# Altium footprint library drive.PcbLib: 35 footprints (part 3 of 3)
Each footprint in its own frame and in the unit in brackets; x right, y up, seen from the top. Pads: shape width x height; smd on the part's side, far side on the other; paste and mask are expansions set on the pad; w line width, h text height; cw(c..) or ccw(c..) is an arc to the next point about the centre after c.
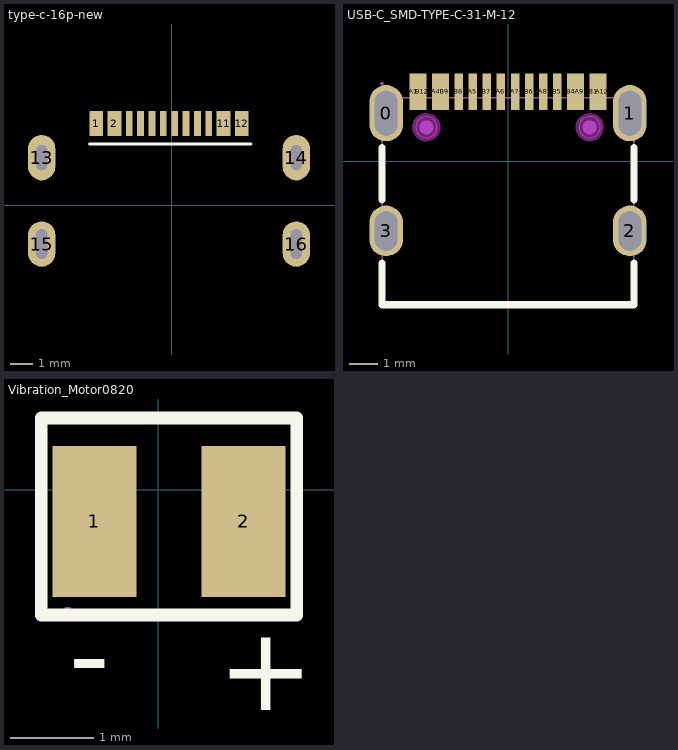
[diagram p2: the footprints below, top view; thin cyan lines are the x and y axes]

## type-c-16p-new [mm]
pads (16):
  rect 0.6x1.1 smd paste-100 mask+0.05: 1(-3.327,3.59) 2(-2.527,3.59) 11(2.273,3.59) 12(3.073,3.59)
  rect 0.3x1.1 smd paste-100 mask+0.05: 3(-1.877,3.59) 4(-1.377,3.59) 5(-0.877,3.59) 6(-0.377,3.59) 7(0.123,3.59) 8(0.623,3.59) 9(1.123,3.59) 10(1.623,3.59)
  oval 1.2x2 hole 0.5 slot 1.1 at 90 deg: 13(-5.727,2.097) 14(5.473,2.097)
  oval 1.2x2 hole 0.5 slot 1.3 at 90 deg: 15(-5.727,-1.703) 16(5.473,-1.703)
Top Overlay:
  lines w0.15: -3.627,2.697 3.273,2.697 3.473,2.697
Top Paste:
  region: -1.027,4.141 -0.727,4.141 -0.727,3.041 -1.027,3.041
  region: 0.473,4.141 0.773,4.141 0.773,3.041 0.473,3.041
  region: -2.027,4.141 -1.727,4.141 -1.727,3.041 -2.027,3.041
  region: -2.827,4.141 -2.227,4.141 -2.227,3.041 -2.827,3.041
  region: -0.527,4.141 -0.227,4.141 -0.227,3.041 -0.527,3.041
  region: -1.527,4.141 -1.227,4.141 -1.227,3.041 -1.527,3.041
  region: -3.627,4.141 -3.027,4.141 -3.027,3.041 -3.627,3.041
  region: -0.027,4.141 0.273,4.141 0.273,3.041 -0.027,3.041
  region: 1.973,4.141 2.573,4.141 2.573,3.041 1.973,3.041
  region: 2.773,4.14 3.373,4.14 3.373,3.04 2.773,3.04
  region: 0.973,4.141 1.273,4.141 1.273,3.041 0.973,3.041
  region: 1.473,4.141 1.773,4.141 1.773,3.041 1.473,3.041
3D body "TYPEC_6P.STEP": height 1.59, standoff -1.57, extent -5.827,-3.503 5.573,3.047

## USB-C_SMD-TYPE-C-31-M-12 [mm]
pads (20):
  oval 1.2x2 hole 0.8 slot 1.6 at 90 deg: 0(-4.325,1.706) 1(4.325,1.706)
  oval 1.2x1.8 hole 0.8 slot 1.4 at 90 deg: 2(4.325,-2.474) 3(-4.325,-2.474)
  rect 0.3x1.3 smd paste-100 mask+0.051: A1(-3.35,2.474) A4(-2.55,2.474) A5(-1.25,2.474) A6(-0.25,2.474) A7(0.25,2.474) A8(1.25,2.474) A9(2.55,2.474) A12(3.35,2.474) B1(3.05,2.474) B4(2.25,2.474) B5(1.75,2.474) B6(0.75,2.474) B7(-0.75,2.474) B8(-1.75,2.474) B9(-2.25,2.474) B12(-3.05,2.474)
Top Overlay:
  lines w0.254: -4.469,-3.613 -4.469,-5.094 4.471,-5.094 4.471,-3.612 ; -4.469,-1.376 -4.469,0.487 ; 4.471,-1.376 4.471,0.488
Top Paste:
  drawing of 16 lines, arcs and shapes, not listed
Keep-Out Layer:
  board cut-out: -2.525,1.206 -2.525,1.28 -2.582,1.418 -2.688,1.524 -2.825,1.581 -2.975,1.581 -3.112,1.524 -3.218,1.418 -3.275,1.28 -3.275,1.206 -3.275,1.131 -3.218,0.993 -3.112,0.888 -2.975,0.831 -2.825,0.831 -2.688,0.888 -2.582,0.993 -2.525,1.131
  board cut-out: 3.275,1.206 3.275,1.28 3.218,1.418 3.112,1.524 2.974,1.581 2.825,1.581 2.687,1.524 2.582,1.418 2.525,1.28 2.525,1.206 2.525,1.131 2.582,0.993 2.687,0.888 2.825,0.831 2.974,0.831 3.112,0.888 3.218,0.993 3.275,1.131
Keep-Out Layer:
  circle w0.025: c-2.9,1.206 r0.375
  circle w0.254: c-2.9,1.206 r0.375
  circle w0.025: c2.9,1.206 r0.375
  circle w0.254: c2.9,1.206 r0.375
Mechanical 1:
  circle w0.025: c-2.9,1.206 r0.375
  circle w0.025: c2.9,1.206 r0.375
Mechanical 6:
  circle w0.25: c2.9,1.206 r0.125
  circle w0.25: c-2.9,1.206 r0.125
Mechanical 15:
  region: -4.415,2.756 -4.416,2.78 -4.451,2.813 -4.499,2.813 -4.534,2.78 -4.535,2.756 -4.534,2.732 -4.499,2.699 -4.451,2.699 -4.416,2.732
  region: -4.475,-2.074 -4.175,-2.074 -4.175,-2.874 -4.475,-2.874
  region: 4.175,-2.074 4.475,-2.074 4.475,-2.874 4.175,-2.874
  region: 4.175,2.256 4.475,2.256 4.475,1.156 4.175,1.156
  region: -4.475,2.256 -4.175,2.256 -4.175,1.156 -4.475,1.156
  region: 3.21,2.756 3.41,2.756 3.41,2.056 3.21,2.056
  region: 3.01,2.756 3.21,2.756 3.21,2.056 3.01,2.056
  region: 1.65,2.756 1.85,2.756 1.85,2.056 1.65,2.056
  region: 1.15,2.756 1.35,2.756 1.35,2.056 1.15,2.056
  region: 0.65,2.756 0.85,2.756 0.85,2.056 0.65,2.056
  region: 0.15,2.756 0.35,2.756 0.35,2.056 0.15,2.056
  region: -0.35,2.756 -0.15,2.756 -0.15,2.056 -0.35,2.056
  region: -0.85,2.756 -0.65,2.756 -0.65,2.056 -0.85,2.056
  region: -1.35,2.756 -1.15,2.756 -1.15,2.056 -1.35,2.056
  region: -1.85,2.756 -1.65,2.756 -1.65,2.056 -1.85,2.056
  region: 2.41,2.756 2.61,2.756 2.61,2.056 2.41,2.056
  region: 2.21,2.756 2.41,2.756 2.41,2.056 2.21,2.056
  region: -2.41,2.756 -2.21,2.756 -2.21,2.056 -2.41,2.056
  region: -2.61,2.756 -2.41,2.756 -2.41,2.056 -2.61,2.056
  region: -3.21,2.756 -3.01,2.756 -3.01,2.056 -3.21,2.056
  region: -3.41,2.756 -3.21,2.756 -3.21,2.056 -3.41,2.056
  lines w0.051: -4.47,-5.094 -4.47,2.256 4.47,2.256 4.47,-5.094 -4.47,-5.094

## Vibration_Motor0820 [mil]
pads (2):
  rect 39.37x70.87 smd: 1(-30,-15) 2(40,-15)
Top Overlay:
  lines w5.98: -55,-58.89 -55,33.61 65,33.61 65,-58.89 -55,-58.89
  text "-" at -42,-96.68 h39.37
  text "+" at 28,-103.56 h39.37
Mechanical 15:
  region: -23.54,16.89 -11.73,16.89 -11.73,-42.17 -23.54,-42.17
  region: 26.46,16.89 38.27,16.89 38.27,-42.17 26.46,-42.17
  region: -40.28,-57.64 -40.28,-56.66 -41.66,-55.28 -43.62,-55.28 -45,-56.66 -45,-57.64 -45,-58.62 -43.62,-60 -41.66,-60 -40.28,-58.62
  lines w2: -42.64,-57.64 57.36,-57.64 ; -42.64,32.36 57.36,32.36